# Altium footprint library TeknoFest.PcbLib: 43 footprints (part 3 of 3)
Each footprint in its own frame and in the unit in brackets; x right, y up, seen from the top. Pads: shape width x height; smd on the part's side, far side on the other; paste and mask are expansions set on the pad; w line width, h text height; cw(c..) or ccw(c..) is an arc to the next point about the centre after c.
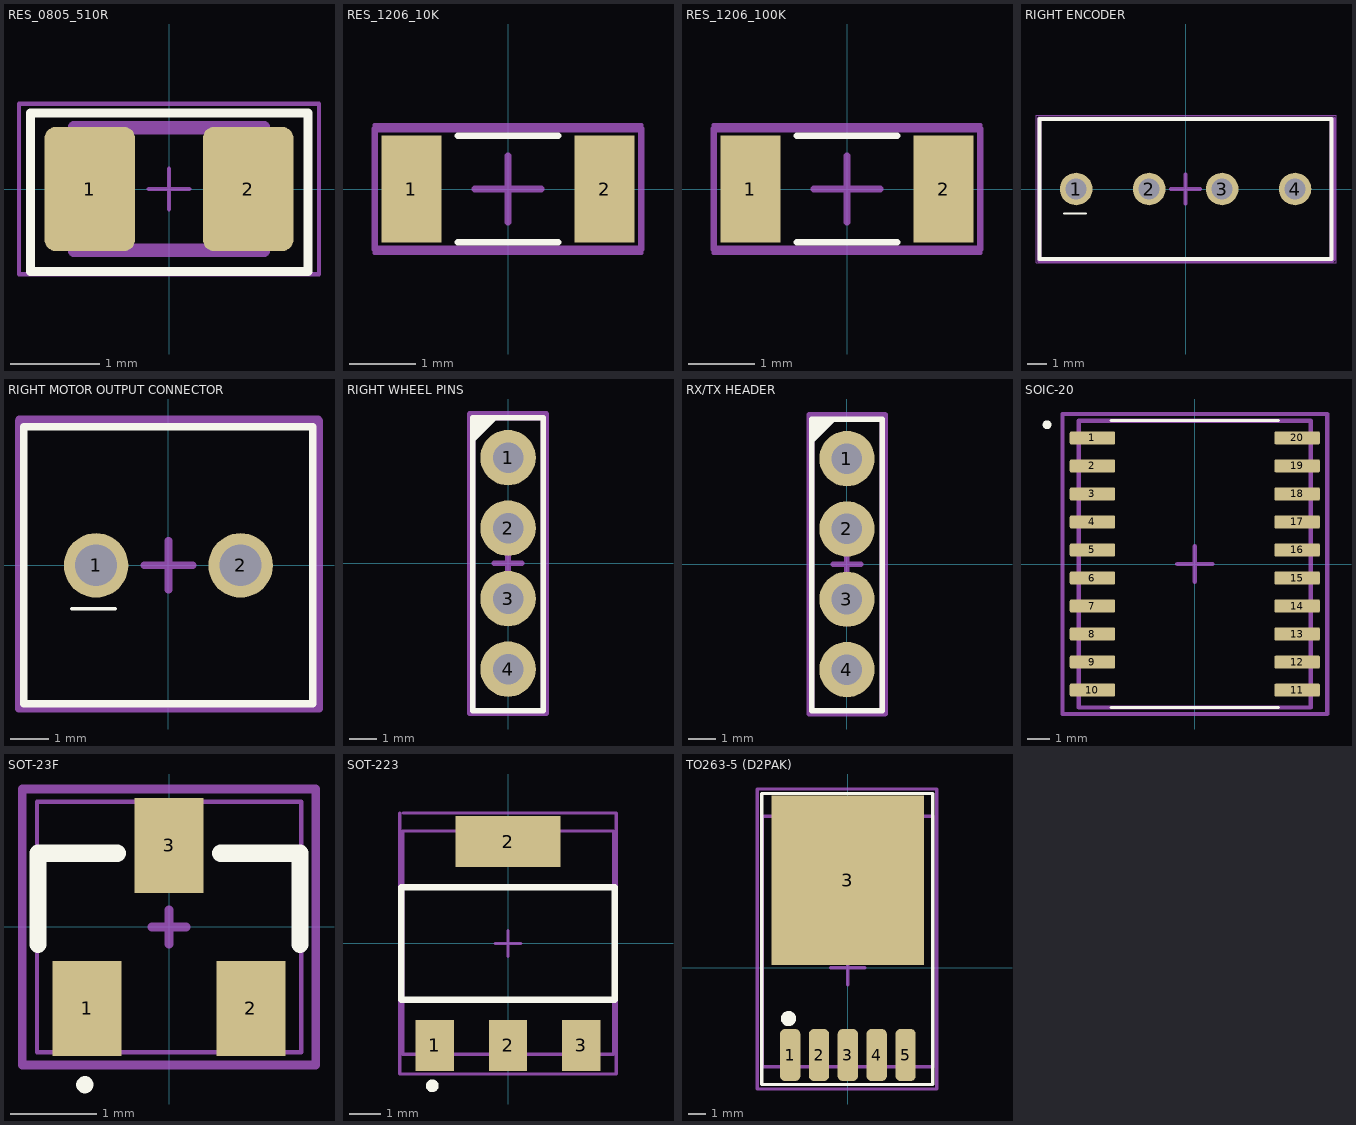
[diagram p2: the footprints below, top view; thin cyan lines are the x and y axes]

## RES_0805_510R [mil]
pads (2):
  rrect25% 40x55 smd: 1(-35,0) 2(35,0)
Top Overlay:
  lines w3.94: -61.27,-36.47 -61.27,33.53 61.42,33.53 61.42,-36.47 -61.27,-36.47
Top 3D Body:
  lines w1.97: -39,-25 -39,25 40,25 40,-25 -39,-25
Top Component Center:
  lines w1.97: -9,0 0,0 ; 0,-9 0,0 ; 0,9 0,0 ; 9,0 0,0 ; -62,-36 -62,34 -61,34 62,34 62,-36 -62,-36
Top  Designator:
  lines w1.97: -61.76,-36.79 -61.76,32.84 -61.76,34.1 61.34,34.1 61.34,-36.79 -61.76,-36.79
  text ".Designator" at -6.06,-4.5 h19.68
Mechanical 13:
  lines w5: -42.13,-27.56 -42.13,27.56 ; -42.13,-27.56 42.13,-27.56 ; -42.13,-27.56 42.13,-27.56 ; -42.13,-27.56 -42.13,27.56 ; -42.13,27.56 42.13,27.56 ; -42.13,27.56 42.13,27.56 ; 42.13,-27.56 42.13,27.56 ; 42.13,-27.56 42.13,27.56
Mechanical 15:
  lines w1.97: -66.34,-37.8 -66.34,37.8 ; -66.34,-37.8 66.34,-37.8 ; -66.34,-37.8 66.34,-37.8 ; -66.34,-37.8 -66.34,37.8 ; -66.34,37.8 66.34,37.8 ; -66.34,37.8 66.34,37.8 ; 66.34,-37.8 66.34,37.8 ; 66.34,-37.8 66.34,37.8
3D body "RC0805FR-07330RL.STEP": height 23.62, standoff 0, extent -39.37,-24.61 39.37,24.61

## RES_1206_10K [mm]
pads (2):
  rect 0.9x1.6 smd mask+0.05: 1(-1.45,0) 2(1.45,0)
Top Overlay:
  lines w0.1: -0.75,-0.8 0.75,-0.8 ; -0.75,0.8 0.75,0.8
Top 3D Body:
  lines w0.05: -2.007,-0.965 -2.007,0.965 2.007,0.965 2.007,-0.965 -2.007,-0.965
Top Component Center:
  lines w0.1: -0.5,0 0.5,0 ; 0,-0.5 0,0.5 ; -2,-0.9 -2,0.9 2,0.9 2,-0.9 -2,-0.9
Top  Designator:
  lines w0.1: -2,-0.9 -2,0.9 2,0.9 2,-0.9 -2,-0.9
  text ".Designator" at -1.35,-0.383 h0.8
3D body "res1206r.STEP": height 0.55, standoff 0, extent -1.984,-0.938 1.984,0.938

## RES_1206_100K [mm]
pads (2):
  rect 0.9x1.6 smd mask+0.05: 1(-1.45,0) 2(1.45,0)
Top Overlay:
  lines w0.1: -0.75,-0.8 0.75,-0.8 ; -0.75,0.8 0.75,0.8
Top 3D Body:
  lines w0.05: -2.007,-0.965 2.007,-0.965 2.007,0.965 -2.007,0.965 -2.007,-0.965
Top Component Center:
  lines w0.1: -0.5,0 0.5,0 ; 0,-0.5 0,0.5 ; -2,-0.9 -2,0.9 2,0.9 2,-0.9 -2,-0.9
Top  Designator:
  lines w0.1: -2,-0.9 -2,0.9 2,0.9 2,-0.9 -2,-0.9
  text ".Designator" at -1.35,-0.383 h0.8
3D body "res1206r.STEP": height 0.55, standoff 0, extent -1.984,-0.938 1.984,0.938

## RIGHT ENCODER [mm]
pads (4):
  round 1.7 hole 1.1: 1(-5.715,0) 2(-1.905,0) 3(1.905,0) 4(5.715,0)
Top Overlay:
  lines w0.1: -6.35,-1.27 -5.207,-1.27
  lines w0.2: -7.62,-3.65 -7.62,3.65 7.62,3.65 7.62,-3.65 -7.62,-3.65
Top 3D Body:
  lines w0.2: -7.645,-3.734 7.671,-3.734 7.671,3.683 -7.645,3.683 -7.645,-3.734
Top Component Center:
  lines w0.2: -0.762,0 0,0 ; 0,-0.762 0,0 ; 0,0.762 0,0 ; 0.762,0 0,0 ; -7.62,-3.683 -7.62,3.683 7.62,3.683 7.62,-3.683 -7.62,-3.683
Top  Designator:
  lines w0.2: -7.662,-3.683 -7.662,3.683 7.716,3.683 7.716,-3.683 -7.662,-3.683
  text ".Designator" at -2.032,0 h1.52
Mechanical 15:
  lines w0.05: -7.81,-3.85 -7.81,3.85 7.85,3.85 7.85,-3.85 -7.81,-3.85
3D body "Phoenix Contact - 1727036 v2.step": height 8.5, standoff -3.5, extent -7.62,-3.65 7.62,3.65

## RIGHT MOTOR OUTPUT CONNECTOR [mm]
pads (2):
  round 1.7 hole 1.1: 1(-1.905,0) 2(1.905,0)
Top Overlay:
  lines w0.1: -2.54,-1.143 -1.397,-1.143
  lines w0.2: -3.81,-3.65 3.81,-3.65 3.81,3.65 -3.81,3.65 -3.81,-3.65
Top 3D Body:
  lines w0.2: -3.927,-3.771 -3.927,3.768 3.939,3.768 3.939,-3.771 -3.927,-3.771
Top Component Center:
  lines w0.2: -0.635,-0.001 0.004,-0.001 ; 0.004,-0.64 0.004,-0.001 ; 0.004,0.007 0.004,0.646 ; 0.642,-0.001 0.004,-0.001 ; -3.93,-3.785 -3.93,3.858 3.947,3.858 3.947,-3.785 -3.93,-3.785
Top  Designator:
  lines w0.2: -3.873,3.81 3.972,3.81 3.972,-3.784 -3.937,-3.784 -3.937,3.81 -3.81,3.81
  text ".Designator" at -0.889,0.254 h1.52
3D body "Phoenix Contact - 1727010 v11.step": height 8.5, standoff -3.5, extent -3.81,-3.65 3.81,3.65

## RIGHT WHEEL PINS [mm]
pads (4):
  round 2 hole 1.1: 1(0,3.81) 2(0,1.27) 3(0,-1.27) 4(0,-3.81)
Top Overlay:
  region: -1.23,5.27 -1.23,4.37 -0.33,5.27
  lines w0.2: -1.27,-5.3 -1.27,5.24 1.27,5.24 1.27,-5.3 -1.27,-5.3
Top 3D Body:
  lines w0.2: -1.376,-5.395 -1.376,5.38 1.374,5.38 1.374,-5.395 -1.376,-5.395
Top Component Center:
  lines w0.2: -0.5,0 0.5,0 ; 0,-0.5 0,0.5 ; -1.27,-5.3 -1.27,5.24 1.27,5.24 1.27,-5.3 -1.27,-5.3
Top  Designator:
  lines w0.1: -1.344,-5.425 1.363,-5.425 1.363,5.37 -1.344,5.37 -1.344,-5.425
  text ".Designator" at 0.279,-0.612 h1
3D body "M20-7820442.step": height 8.5, standoff -3, extent -1.25,-5.28 1.25,5.28

## RX/TX HEADER [mm]
pads (4):
  round 2 hole 1.1: 1(0,3.81) 2(0,1.27) 3(0,-1.27) 4(0,-3.81)
Top Overlay:
  region: -1.23,5.27 -1.23,4.37 -0.33,5.27
  lines w0.2: -1.27,-5.3 1.27,-5.3 1.27,5.24 -1.27,5.24 -1.27,-5.3
Top 3D Body:
  lines w0.2: -1.367,-5.402 1.374,-5.402 1.374,5.399 -1.367,5.399 -1.367,-5.402
Top Component Center:
  lines w0.2: -0.5,0 0.5,0 ; 0,-0.5 0,0.5 ; -1.27,-5.3 1.27,-5.3 1.27,5.24 -1.27,5.24 -1.27,-5.3
Top  Designator:
  lines w0.1: -1.372,-5.415 1.374,-5.415 1.374,5.424 -1.372,5.424 -1.372,-5.415
  text ".Designator" at 0.279,-0.612 h1
3D body "M20-7820442.step": height 8.5, standoff -3, extent -1.25,-5.28 1.25,5.28

## SOIC-20 [mm]
pads (20):
  rrect25% 2.06x0.6 smd: 1(-4.64,5.715) 2(-4.64,4.445) 3(-4.64,3.175) 4(-4.64,1.905) 5(-4.64,0.635) 6(-4.64,-0.635) 7(-4.64,-1.905) 8(-4.64,-3.175) 9(-4.64,-4.445) 10(-4.64,-5.715) 11(4.64,-5.715) 12(4.64,-4.445) 13(4.64,-3.175) 14(4.64,-1.905) 15(4.64,-0.635) 16(4.64,0.635) 17(4.64,1.905) 18(4.64,3.175) 19(4.64,4.445) 20(4.64,5.715)
Top Overlay:
  circle w0.2: c-6.7,6.315 r0.1
  circle w0.2: c-6.7,6.315 r0.1
  lines w0.127: -3.8,-6.5 3.8,-6.5 ; -3.8,6.5 3.8,6.5
Top 3D Body:
  lines w0.2: -5.258,-6.507 -5.258,6.501 5.258,6.501 5.258,-6.507 -5.258,-6.507
Top Component Center:
  lines w0.2: -0.8,0 0.8,0 ; 0,-0.8 0,0.8 ; -6,-6.8 6,-6.8 6,6.8 -6,6.8 -6,-6.8
Top  Designator:
  lines w0.2: -6,-6.8 6,-6.8 6,6.8 -6,6.8 -6,-6.8
  text ".Designator" at 0.254,0.762 h1.52
3D body "SN74AHC244DW.STEP": height 2.65, standoff 0, extent -5.15,-6.4 5.15,6.4

## SOT-23F [mm]
pads (3):
  rect 0.8x1.1 smd mask+0.05: 1(-0.95,-0.945) 2(0.95,-0.945) 3(0,0.945)
Top Overlay:
  circle w0.1: c-0.976,-1.828 r0.05
  lines w0.2: -1.519,-0.2 -1.519,0.855 -0.6,0.855 ; 0.6,0.855 1.519,0.855 1.519,-0.2
Top 3D Body:
  lines w0.05: -1.53,-1.452 1.534,-1.452 1.534,1.451 -1.53,1.451 -1.53,-1.452
Top Component Center:
  lines w0.1: -0.2,0 0.2,0 ; 0,-0.2 0,0.2 ; -1.7,-1.6 1.7,-1.6 1.7,1.6 -1.6,1.6 -1.7,1.6 -1.7,-1.6
Top  Designator:
  lines w0.1: -1.7,-1.6 -1.7,1.6 -1.6,1.6 1.7,1.6 1.7,-1.6 -1.7,-1.6
  text ".Designator" at -0.9,-0.267 h0.7
3D body "SOT23-3.stp": height 1.15, standoff -0.03, extent -1.5,-1.418 1.5,1.418

## SOT-223 [mm]
pads (4):
  rect 1.2x1.6 smd mask+0.05: 1(-2.3,-3.2) 2(0,-3.2) 3(2.3,-3.2)
  rect 3.3x1.6 smd mask+0.05: 2(0,3.2)
Top Overlay:
  circle w0.2: c-2.377,-4.468 r0.1
  lines w0.2: -3.351,-1.768 3.351,-1.768 3.351,1.768 -3.351,1.768 -3.351,-1.768
Top 3D Body:
  lines w0.05: -3.327,3.531 -3.304,3.531
  lines w0.1: -3.304,3.531 -3.304,-3.48 3.315,-3.48 3.315,3.534 -3.304,3.534
Top Component Center:
  lines w0.1: -3.4,4.1 -3.4,-4.1 3.4,-4.1 3.4,4.1 -3.3,4.1 ; -0.4,0 0.4,0 ; 0,-0.4 0,0.4
Top  Designator:
  lines w0.1: -3.4,4.1 -3.4,-4.1 3.4,-4.1 3.4,4.1 -3.3,4.1
  text ".Designator" at -2,-0.5 h1.2
3D body "CircuitWorks-SOT-223.step": height 1.68, standoff 0, extent -3.25,-3.48 3.25,3.48

## TO263-5 (D2PAK) [mm]
pads (6):
  rrect50% 1.2x3.075 smd mask+0.05: 1(-3.404,-5.15) 2(-1.702,-5.15) 3(0,-5.15) 4(1.702,-5.15) 5(3.404,-5.15)
  rect 9x10 smd mask+0.05: 3(0,5.15)
Top Overlay:
  circle w0.5: c-3.5,-3 r0.2
  lines w0.2: -5.071,-6.887 5,-6.887 5,10.282 -5.071,10.282 -5.071,8.263 -5.071,-6.887
Top 3D Body:
  lines w0.2: -5.047,8.941 -5.047,-5.831 5,-5.831 5,8.941 -4.941,8.941
Top Component Center:
  lines w0.2: -1,0 1,0 ; 0,-1 0,1 ; -5.353,-7.152 -5.353,10.545 5.251,10.545 5.251,-7.152 -5.353,-7.152
Top  Designator:
  lines w0.2: -5.353,-7.152 -5.353,10.545 5.251,10.545 5.251,-7.152 -5.353,-7.152
  text ".Designator" at -2.1,1.066 h2
3D body "TO263-5-1.stp": height 4.22, standoff 0, extent -4.922,-5.751 4.9,8.851